# EAGLE library part INA240 (library QUAD_ICs)
Current Sensor INA240
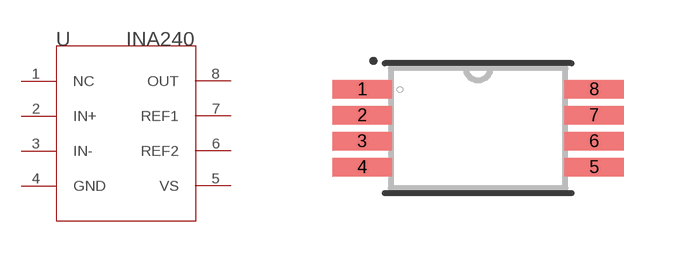
[diagram p7: symbol with the pads of PW0008A_N; footprint PW0008A_N]

Designator prefix -

## INA240  [PW0008A_N]
1  NC  pas
2  IN+  in
3  IN-  in
4  GND  pwr
5  VS  pwr
6  REF2  in
7  REF1  in
8  OUT  out

## Footprint PW0008A_N (pad centres in mm)
smd 1.499 x 0.457: 1 -2.9,0.975; 2 -2.9,0.325; 3 -2.9,-0.325; 4 -2.9,-0.975; 5 2.9,-0.975; 6 2.9,-0.325; 7 2.9,0.325; 8 2.9,0.975